# Altium footprint library DANCE_LIB_REV2.PcbLib: 146 footprints (part 3 of 10)
Each footprint in its own frame and in the unit in brackets; x right, y up, seen from the top. Pads: shape width x height; smd on the part's side, far side on the other; paste and mask are expansions set on the pad; w line width, h text height; cw(c..) or ccw(c..) is an arc to the next point about the centre after c.
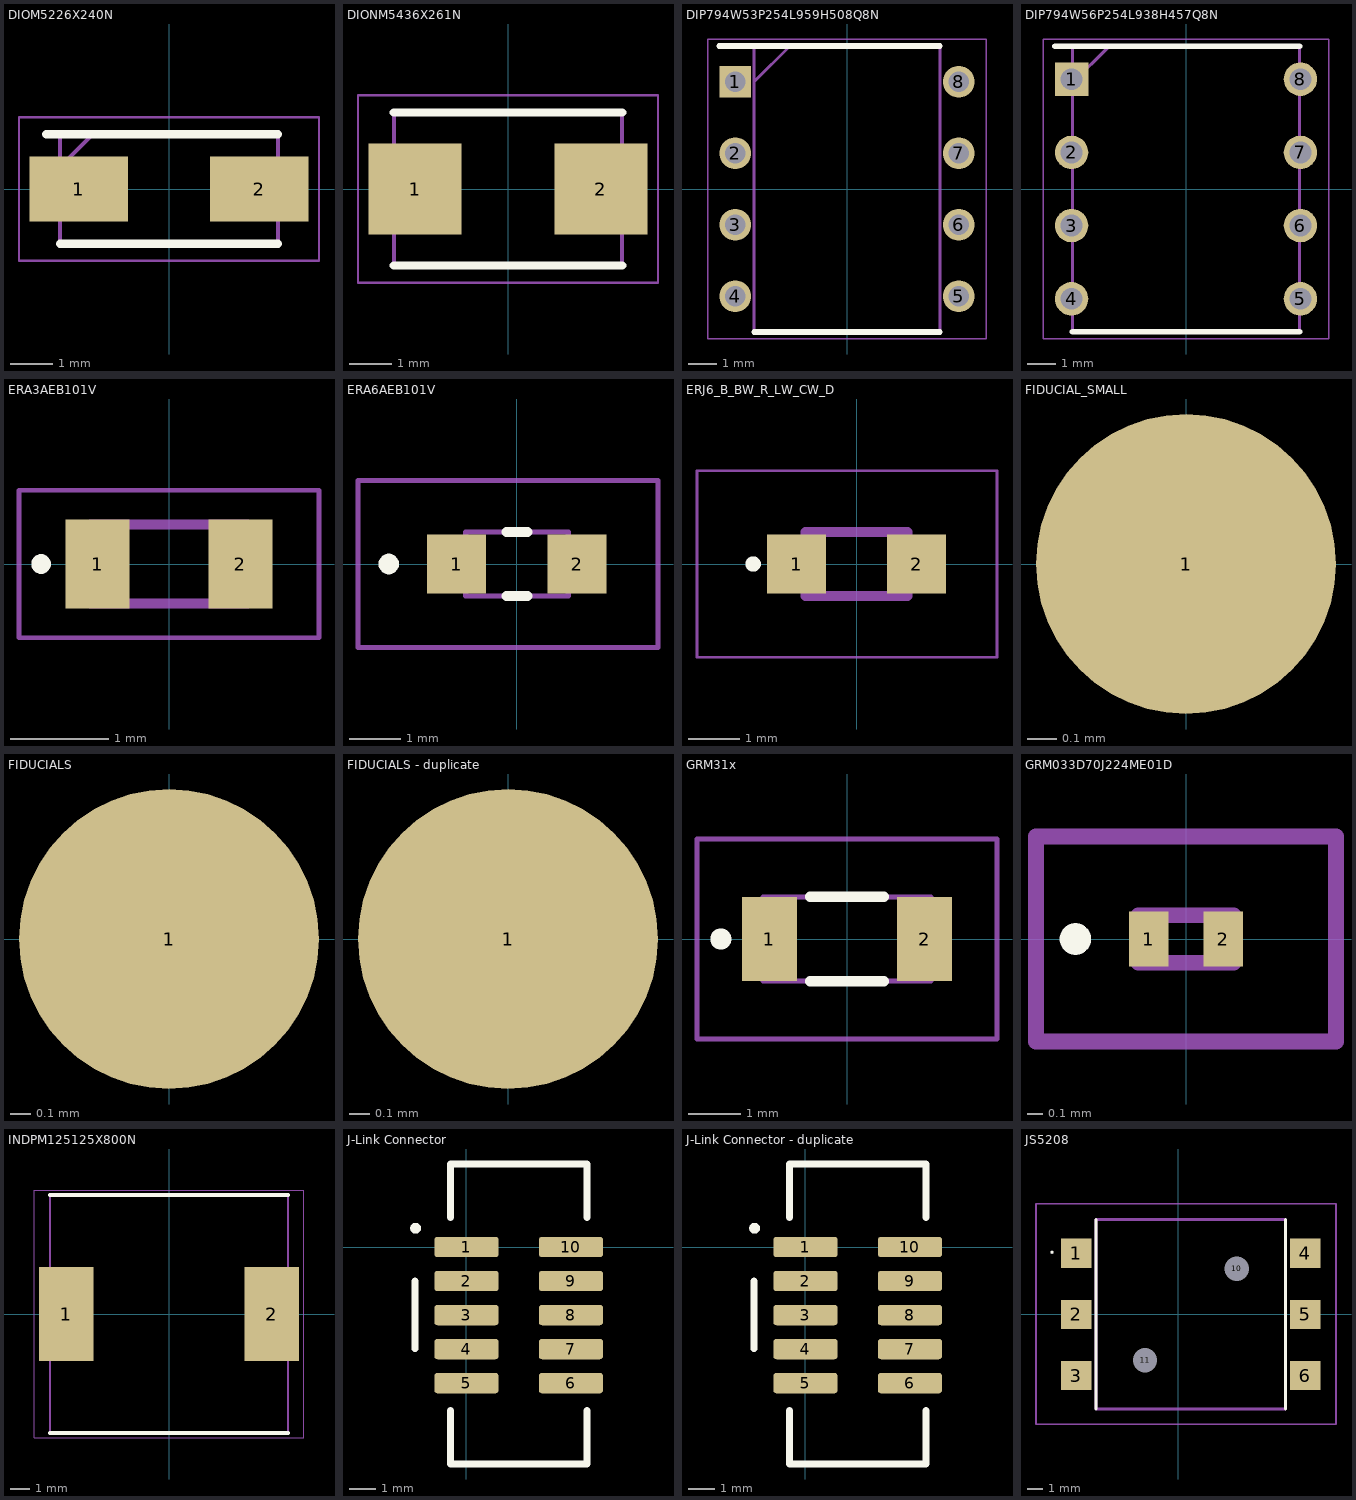
[diagram p2: the footprints below, top view; thin cyan lines are the x and y axes]

## DIOM5226X240N [mm]
pads (2):
  rect 2.35x1.55 smd: 1(-2.15,0) 2(2.15,0)
Top Overlay:
  lines w0.2: -2.925,1.302 2.598,1.302 ; -2.598,-1.302 2.598,-1.302
Mechanical 13:
  lines w0.1: -2.598,0.528 -1.822,1.302 ; -2.598,-1.302 2.598,-1.302 2.598,1.302 -2.598,1.302 -2.598,-1.302
Mechanical 15:
  lines w0.05: -3.575,-1.71 3.575,-1.71 3.575,1.71 -3.575,1.71 -3.575,-1.71
3D body "SMAZ5V1-13-F.stp": height 2.4, standoff 0, extent -2.598,-1.302 2.598,1.302

## DIONM5436X261N [mm]
pads (2):
  rect 2.2x2.15 smd: 1(-2.2,0) 2(2.2,0)
Top Overlay:
  lines w0.2: -2.7,-1.81 2.7,-1.81 ; -2.7,1.81 2.7,1.81
Mechanical 13:
  lines w0.1: -2.7,-1.81 -2.7,1.81 2.7,1.81 2.7,-1.81 -2.7,-1.81
Mechanical 15:
  lines w0.05: -3.55,-2.22 -3.55,2.22 3.55,2.22 3.55,-2.22 -3.55,-2.22
3D body "SMBJ11CA.stp": height 2.61, standoff 0, extent -2.7,-1.81 2.7,1.81

## DIP794W53P254L959H508Q8N [mm]
pads (8):
  rect 1.13x1.13 hole 0.73: 1(-3.97,3.81)
  round 1.13 hole 0.73: 2(-3.97,1.27) 3(-3.97,-1.27) 4(-3.97,-3.81) 5(3.97,-3.81) 6(3.97,-1.27) 7(3.97,1.27) 8(3.97,3.81)
Top Overlay:
  lines w0.2: -4.535,5.08 3.3,5.08 ; -3.3,-5.08 3.3,-5.08
Mechanical 13:
  lines w0.1: -3.3,3.81 -2.03,5.08 ; -3.3,-5.08 3.3,-5.08 3.3,5.08 -3.3,5.08 -3.3,-5.08
Mechanical 15:
  lines w0.05: -4.945,-5.33 4.945,-5.33 4.945,5.33 -4.945,5.33 -4.945,-5.33
3D body "LMC7660IN_NOPB.stp": height 4.21, standoff -3.37, extent -4.102,-4.635 4.102,4.635

## DIP794W56P254L938H457Q8N [mm]
pads (8):
  rect 1.16x1.16 hole 0.76: 1(-3.97,3.81)
  round 1.16 hole 0.76: 2(-3.97,1.27) 3(-3.97,-1.27) 4(-3.97,-3.81) 5(3.97,-3.81) 6(3.97,-1.27) 7(3.97,1.27) 8(3.97,3.81)
Top Overlay:
  lines w0.2: -4.55,4.955 3.935,4.955 ; -3.935,-4.955 3.935,-4.955
Mechanical 13:
  lines w0.1: -3.935,3.685 -2.665,4.955 ; -3.935,-4.955 -3.935,4.955 3.935,4.955 3.935,-4.955 -3.935,-4.955
Mechanical 15:
  lines w0.05: -4.96,-5.205 -4.96,5.205 4.96,5.205 4.96,-5.205 -4.96,-5.205
3D body "MAX941CPA.stp": height 4.57, standoff -3.5, extent -4.11,-4.687 4.11,4.687

## ERA3AEB101V [mm]
pads (2):
  rect 0.65x0.9 smd: 1(-0.725,0) 2(0.725,0)
Top Overlay:
  lines w0.1: -1.3,-0.05 ccw(c-1.3,0) -1.3,0.05 ccw(c-1.3,0) -1.3,-0.05
Mechanical 13:
  lines w0.1: -0.8,-0.4 -0.8,0.4 0.8,0.4 0.8,-0.4 -0.8,-0.4
Mechanical 15:
  lines w0.05: -1.525,-0.75 -1.525,0.75 1.525,0.75 1.525,-0.75 -1.525,-0.75
3D body "ERA-3AEB1072V.stp": height 0.45, standoff 0, extent -0.8,-0.4 0.8,0.4

## ERA6AEB101V [mm]
pads (2):
  rect 1.15x1.15 smd: 1(-1.175,0) 2(1.175,0)
Top Overlay:
  lines w0.2: -0.2,-0.625 0.2,-0.625 ; -0.2,0.625 0.2,0.625 ; -2.5,-0.1 ccw(c-2.5,0) -2.5,0.1 ccw(c-2.5,0) -2.5,-0.1
Mechanical 13:
  lines w0.1: -1,-0.625 -1,0.625 1,0.625 1,-0.625 -1,-0.625
Mechanical 15:
  lines w0.1: -3.1,-1.625 -3.1,1.625 2.75,1.625 2.75,-1.625 -3.1,-1.625
3D body "ERA-6AEB563V.stp": height 0.5, standoff 0, extent -1,-0.625 1,0.625

## ERJ6_B_BW_R_LW_CW_D [mm]
pads (2):
  rect 1.15x1.15 smd: 1(-1.175,0) 2(1.175,0)
Top Overlay:
  circle w0.2: c-2.025,0 r0.05
Mechanical 13:
  lines w0.2: -1,-0.625 -1,0.625 1,0.625 1,-0.625 -1,-0.625
Mechanical 15:
  lines w0.05: -3.125,-1.825 -3.125,1.825 2.75,1.825 2.75,-1.825 -3.125,-1.825
3D body "ERJ-6DQFR47V.stp": height 0.6, standoff 0, extent -1,-0.625 1,0.625

## FIDUCIAL_SMALL [mil] "1mm fiducial, 2mm solder mask clearance"
pads (1):
  round 40 smd mask+40: 1(0,0)

## FIDUCIALS [mm]
pads (1):
  round 1.5 smd paste-1 mask+1: 1(0,0)

## FIDUCIALS - duplicate [mm]
pads (1):
  round 1.5 smd paste-1 mask+1: 1(0,0)

## GRM31x [mm]
pads (2):
  rect 1.05x1.6 smd: 1(-1.475,0) 2(1.475,0)
Top Overlay:
  lines w0.2: -0.7,-0.8 0.7,-0.8 ; -0.7,0.8 0.7,0.8 ; -2.4,-0.1 ccw(c-2.4,0) -2.4,0.1 ccw(c-2.4,0) -2.4,-0.1
Mechanical 13:
  lines w0.1: -1.6,-0.8 -1.6,0.8 1.6,0.8 1.6,-0.8 -1.6,-0.8
Mechanical 15:
  lines w0.1: -2.854,-1.902 -2.854,1.902 2.854,1.902 2.854,-1.902 -2.854,-1.902
3D body "GRM31CR61A476ME15L.stp": height 1, standoff 0, extent -1.6,-0.8 1.6,0.8

## GRM033D70J224ME01D [mm]
pads (2):
  rect 0.25x0.35 smd: 1(-0.237,0) 2(0.237,0)
Top Overlay:
  lines w0.1: -0.7,-0.05 cw(c-0.7,0) -0.7,0.05 cw(c-0.7,0) -0.7,-0.05
Mechanical 13:
  lines w0.1: -0.3,-0.15 0.3,-0.15 0.3,0.15 -0.3,0.15 -0.3,-0.15
Mechanical 15:
  lines w0.1: -0.95,-0.65 0.95,-0.65 0.95,0.65 -0.95,0.65 -0.95,-0.65
3D body "GRM0335C1E101JA01D.stp": height 0.3, standoff 0, extent -0.3,-0.15 0.3,0.15

## INDPM125125X800N [mm]
pads (2):
  rect 2.85x4.95 smd: 1(-5.4,0) 2(5.4,0)
Top Overlay:
  lines w0.2: -6.25,-6.25 6.25,-6.25 ; -6.25,6.25 6.25,6.25
Mechanical 13:
  lines w0.1: -6.25,-6.25 6.25,-6.25 6.25,6.25 -6.25,6.25 -6.25,-6.25
Mechanical 15:
  lines w0.05: -7.075,-6.5 7.075,-6.5 7.075,6.5 -7.075,6.5 -7.075,-6.5
3D body "DR127-2R2-R.stp": height 7.85, standoff 0, extent -6,-6 6,6

## J-Link Connector [mm]
pads (10):
  rrect30% 2.4x0.76 smd: 1(0,0) 2(0,-1.27) 3(0,-2.54) 4(0,-3.81) 5(0,-5.08) 6(3.9,-5.08) 7(3.9,-3.81) 8(3.9,-2.54) 9(3.9,-1.27) 10(3.9,0)
Top Overlay:
  circle w0.2: c-1.9,0.7 r0.1
  lines w0.254: -1.92,-3.8 -1.92,-1.27 ; -0.6,-6.1 -0.6,-8.1 4.5,-8.1 4.5,-6.1 ; -0.6,1.1 -0.6,3.1 4.5,3.1 4.5,1.1

## J-Link Connector - duplicate [mm]
pads (10):
  rrect30% 2.4x0.76 smd: 1(0,0) 2(0,-1.27) 3(0,-2.54) 4(0,-3.81) 5(0,-5.08) 6(3.9,-5.08) 7(3.9,-3.81) 8(3.9,-2.54) 9(3.9,-1.27) 10(3.9,0)
Top Overlay:
  circle w0.2: c-1.9,0.7 r0.1
  lines w0.254: -1.92,-3.8 -1.92,-1.27 ; -0.6,-6.1 -0.6,-8.1 4.5,-8.1 4.5,-6.1 ; -0.6,1.1 -0.6,3.1 4.5,3.1 4.5,1.1

## JS5208 [mm]
pads (8):
  rect 2x1.9 smd: 1(-6.683,3.975) 2(-6.683,-0.025) 3(-6.683,-4.025) 4(8.317,3.975) 5(8.317,-0.025) 6(8.317,-4.025)
  round 0.8 hole 1.6 unplated: 10(3.817,2.975) 11(-2.183,-3.025)
Top Overlay:
  lines w0.104: -8.317,4.041 cw(c-8.265,4.041) -8.213,4.041 cw(c-8.265,4.041) -8.317,4.041
  lines w0.2: -5.383,-6.225 -5.383,6.175 ; 7.017,-6.225 7.017,6.175
Mechanical 13:
  lines w0.2: -5.383,-6.225 -5.383,6.175 7.017,6.175 7.017,-6.225 -5.383,-6.225
Mechanical 15:
  lines w0.1: -9.317,-7.225 -9.317,7.225 10.317,7.225 10.317,-7.225 -9.317,-7.225
3D body "JS5208.stp": height 12.34, standoff -2.16, extent -7.35,-6.18 9.05,6.22